# EAGLE library part INA118U_2K5 (library INA118U_2K5)
Precision, Low Power Instrumentation Amplifier Source: Datasheet <http://www.ti.com/lit/gpn/INA118>
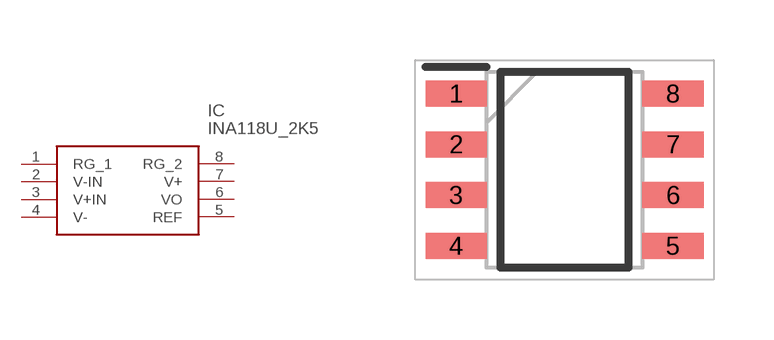
[diagram p0: symbol with the pads of SOIC127P600X175-8N; footprint SOIC127P600X175-8N]

Designator prefix IC

## INA118U_2K5 (Arrow_Part_Number: INA118U/2K5; Arrow_Price-Stock: https://www.arrow.com/en/products/ina118u2k5/texas-instruments; Description: Precision, Low Power Instrumentation Amplifier; Height: 1.75mm; Manufacturer_Name: Texas Instruments; Manufacturer_Part_Number: INA118U/2K5; Mouser_Part_Number: 595-INA118U/2K5; Mouser_Price-Stock: https://www.mouser.co.uk/ProductDetail/Texas-Instruments/INA118U-2K5?qs=VBduBm9rCJRVtE6eJbSA%2Fg%3D%3D)  [SOIC127P600X175-8N]
1  RG_1
2  V-IN
3  V+IN
4  V-
5  REF
6  VO
7  V+
8  RG_2

## Footprint SOIC127P600X175-8N (pad centres in mm)
D000
smd 1.528 x 0.65: 1 -2.711,1.905; 2 -2.711,0.635; 3 -2.711,-0.635; 4 -2.711,-1.905; 5 2.711,-1.905; 6 2.711,-0.635; 7 2.711,0.635; 8 2.711,1.905